# EAGLE library part TXS0104E (library wifi)
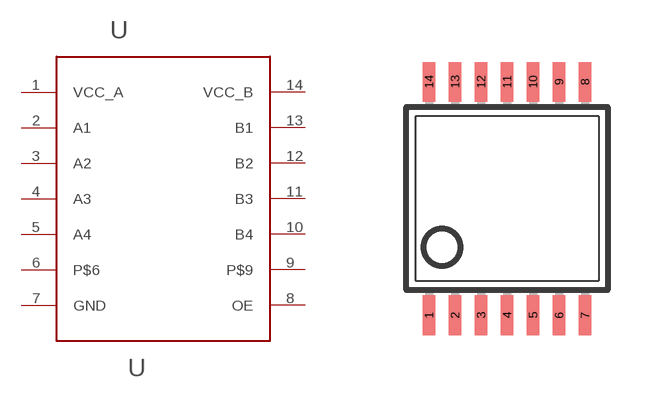
[diagram p1: symbol with the pads of TSSOP-14; footprint TSSOP-14]

Designator prefix -

## TXS0104E  [TSSOP-14]
1  VCC_A
2  A1
3  A2
4  A3
5  A4
6  P$6  nc
7  GND
8  OE
9  P$9  nc
10  B4
11  B3
12  B2
13  B1
14  VCC_B

## Footprint TSSOP-14 (pad centres in mm)
smd 0.305 x 0.991: 1 -1.95,-2.918; 2 -1.3,-2.918; 3 -0.65,-2.918; 4 0,-2.918; 5 0.65,-2.918; 6 1.3,-2.918; 7 1.95,-2.918; 8 1.95,2.918; 9 1.3,2.918; 10 0.65,2.918; 11 0,2.918; 12 -0.65,2.918; 13 -1.3,2.918; 14 -1.95,2.918